# Altium integrated library Altium_WE-MCI (rev20a).IntLib: 48 symbols
Pins are listed as number, name and electrical type; pins without a type are passive.

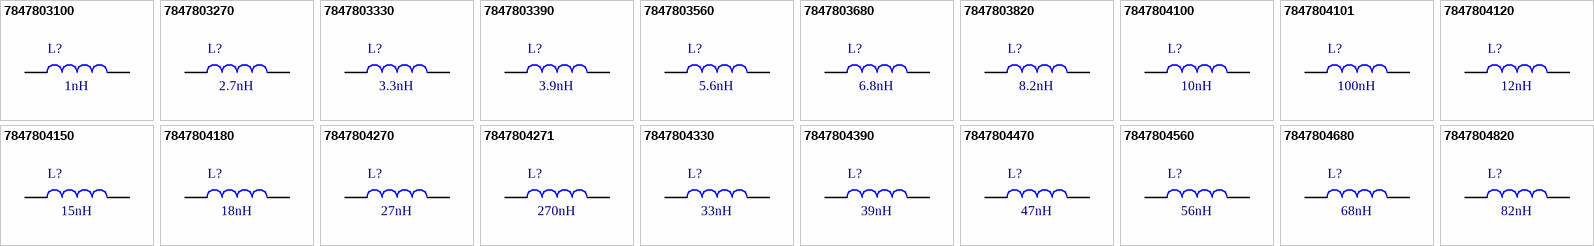
[diagram p0: symbols 7847803100 to 7847804820]

## 7847803100
designator L?, comment 1nH
WE-MCI Multilayer Ceramic SMT Inductor, size 0402, 1nH, 300mA, 0.1Ohm; Manufacturer Part Number: 7847803100; Manufacturer: Wurth Elektronik; Inductance Tolerance: +/-0.3nH; Self Resonant Frequency min.: 8000MHz; Q-Factor min.: 8; ComponentLink1Description: Manufacturer; Operating Temperature: -55 to +125degC; Size: 0402; ComponentLink2URL: https://www.we-online.com/catalog/datasheet/7847803100.pdf; ComponentLink2Description: Datasheet; Rated Current: 300mA; ComponentLink1URL: http://www.we-online.de; Packaging: Tape and Reel; Inductance: 1nH; DC Resistance max.: 0.1Ohm; Mounting Technology: SMT; Published Date: December 2020
footprint WE-MCI_0402
pins: 1, 2

## 7847803270
designator L?, comment 2.7nH
WE-MCI Multilayer Ceramic SMT Inductor, size 0402, 2.7nH, 300mA, 0.17Ohm; Manufacturer Part Number: 7847803270; Manufacturer: Wurth Elektronik; Inductance Tolerance: +/-0.3nH; Self Resonant Frequency min.: 6000MHz; Q-Factor min.: 8; ComponentLink1Description: Manufacturer; Operating Temperature: -55 to +125degC; Size: 0402; ComponentLink2URL: https://www.we-online.com/catalog/datasheet/7847803270.pdf; ComponentLink2Description: Datasheet; Rated Current: 300mA; ComponentLink1URL: http://www.we-online.de; Packaging: Tape and Reel; Inductance: 2.7nH; DC Resistance max.: 0.17Ohm; Mounting Technology: SMT; Published Date: December 2020
footprint WE-MCI_0402
pins: 1, 2

## 7847803330
designator L?, comment 3.3nH
WE-MCI Multilayer Ceramic SMT Inductor, size 0402, 3.3nH, 300mA, 0.19Ohm; Manufacturer Part Number: 7847803330; Manufacturer: Wurth Elektronik; Inductance Tolerance: +/-0.3nH; Self Resonant Frequency min.: 6000MHz; Q-Factor min.: 8; ComponentLink1Description: Manufacturer; Operating Temperature: -55 to +125degC; Size: 0402; ComponentLink2URL: https://www.we-online.com/catalog/datasheet/7847803330.pdf; ComponentLink2Description: Datasheet; Rated Current: 300mA; ComponentLink1URL: http://www.we-online.de; Packaging: Tape and Reel; Inductance: 3.3nH; DC Resistance max.: 0.19Ohm; Mounting Technology: SMT; Published Date: December 2020
footprint WE-MCI_0402
pins: 1, 2

## 7847803390
designator L?, comment 3.9nH
WE-MCI Multilayer Ceramic SMT Inductor, size 0402, 3.9nH, 300mA, 0.19Ohm; Manufacturer Part Number: 7847803390; Manufacturer: Wurth Elektronik; Inductance Tolerance: +/-0.3nH; Self Resonant Frequency min.: 6000MHz; Q-Factor min.: 8; ComponentLink1Description: Manufacturer; Operating Temperature: -55 to +125degC; Size: 0402; ComponentLink2URL: https://www.we-online.com/catalog/datasheet/7847803390.pdf; ComponentLink2Description: Datasheet; Rated Current: 300mA; ComponentLink1URL: http://www.we-online.de; Packaging: Tape and Reel; Inductance: 3.9nH; DC Resistance max.: 0.19Ohm; Mounting Technology: SMT; Published Date: December 2020
footprint WE-MCI_0402
pins: 1, 2

## 7847803560
designator L?, comment 5.6nH
WE-MCI Multilayer Ceramic SMT Inductor, size 0402, 5.6nH, 300mA, 0.26Ohm; Manufacturer Part Number: 7847803560; Manufacturer: Wurth Elektronik; Inductance Tolerance: +/-0.3nH; Self Resonant Frequency min.: 5300MHz; Q-Factor min.: 8; ComponentLink1Description: Manufacturer; Operating Temperature: -55 to +125degC; Size: 0402; ComponentLink2URL: https://www.we-online.com/catalog/datasheet/7847803560.pdf; ComponentLink2Description: Datasheet; Rated Current: 300mA; ComponentLink1URL: http://www.we-online.de; Packaging: Tape and Reel; Inductance: 5.6nH; DC Resistance max.: 0.26Ohm; Mounting Technology: SMT; Published Date: December 2020
footprint WE-MCI_0402
pins: 1, 2

## 7847803680
designator L?, comment 6.8nH
WE-MCI Multilayer Ceramic SMT Inductor, size 0402, 6.8nH, 300mA, 0.29Ohm; Manufacturer Part Number: 7847803680; Manufacturer: Wurth Elektronik; Inductance Tolerance: +/-5%; Self Resonant Frequency min.: 4200MHz; Q-Factor min.: 8; ComponentLink1Description: Manufacturer; Operating Temperature: -55 to +125degC; Size: 0402; ComponentLink2URL: https://www.we-online.com/catalog/datasheet/7847803680.pdf; ComponentLink2Description: Datasheet; Rated Current: 300mA; ComponentLink1URL: http://www.we-online.de; Packaging: Tape and Reel; Inductance: 6.8nH; DC Resistance max.: 0.29Ohm; Mounting Technology: SMT; Published Date: December 2020
footprint WE-MCI_0402
pins: 1, 2

## 7847803820
designator L?, comment 8.2nH
WE-MCI Multilayer Ceramic SMT Inductor, size 0402, 8.2nH, 300mA, 0.33Ohm; Manufacturer Part Number: 7847803820; Manufacturer: Wurth Elektronik; Inductance Tolerance: +/-5%; Self Resonant Frequency min.: 3600MHz; Q-Factor min.: 8; ComponentLink1Description: Manufacturer; Operating Temperature: -55 to +125degC; Size: 0402; ComponentLink2URL: https://www.we-online.com/catalog/datasheet/7847803820.pdf; ComponentLink2Description: Datasheet; Rated Current: 300mA; ComponentLink1URL: http://www.we-online.de; Packaging: Tape and Reel; Inductance: 8.2nH; DC Resistance max.: 0.33Ohm; Mounting Technology: SMT; Published Date: December 2020
footprint WE-MCI_0402
pins: 1, 2

## 7847804100
designator L?, comment 10nH
WE-MCI Multilayer Ceramic SMT Inductor, size 0402, 10nH, 300mA, 0.35Ohm; Manufacturer Part Number: 7847804100; Manufacturer: Wurth Elektronik; Inductance Tolerance: +/-5%; Self Resonant Frequency min.: 3200MHz; Q-Factor min.: 8; ComponentLink1Description: Manufacturer; Operating Temperature: -55 to +125degC; Size: 0402; ComponentLink2URL: https://www.we-online.com/catalog/datasheet/7847804100.pdf; ComponentLink2Description: Datasheet; Rated Current: 300mA; ComponentLink1URL: http://www.we-online.de; Packaging: Tape and Reel; Inductance: 10nH; DC Resistance max.: 0.35Ohm; Mounting Technology: SMT; Published Date: December 2020
footprint WE-MCI_0402
pins: 1, 2

## 7847804101
designator L?, comment 100nH
WE-MCI Multilayer Ceramic SMT Inductor, size 0402, 100nH, 150mA, 1.6Ohm; Manufacturer Part Number: 7847804101; Manufacturer: Wurth Elektronik; Inductance Tolerance: +/-5%; Self Resonant Frequency min.: 600MHz; Q-Factor min.: 8; ComponentLink1Description: Manufacturer; Operating Temperature: -55 to +125degC; Size: 0402; ComponentLink2URL: https://www.we-online.com/catalog/datasheet/7847804101.pdf; ComponentLink2Description: Datasheet; Rated Current: 150mA; ComponentLink1URL: http://www.we-online.de; Packaging: Tape and Reel; Inductance: 100nH; DC Resistance max.: 1.6Ohm; Mounting Technology: SMT; Published Date: December 2020
footprint WE-MCI_0402
pins: 1, 2

## 7847804120
designator L?, comment 12nH
WE-MCI Multilayer Ceramic SMT Inductor, size 0402, 12nH, 300mA, 0.41Ohm; Manufacturer Part Number: 7847804120; Manufacturer: Wurth Elektronik; Inductance Tolerance: +/-5%; Self Resonant Frequency min.: 2800MHz; Q-Factor min.: 8; ComponentLink1Description: Manufacturer; Operating Temperature: -55 to +125degC; Size: 0402; ComponentLink2URL: https://www.we-online.com/catalog/datasheet/7847804120.pdf; ComponentLink2Description: Datasheet; Rated Current: 300mA; ComponentLink1URL: http://www.we-online.de; Packaging: Tape and Reel; Inductance: 12nH; DC Resistance max.: 0.41Ohm; Mounting Technology: SMT; Published Date: December 2020
footprint WE-MCI_0402
pins: 1, 2

## 7847804150
designator L?, comment 15nH
WE-MCI Multilayer Ceramic SMT Inductor, size 0402, 15nH, 300mA, 0.46Ohm; Manufacturer Part Number: 7847804150; Manufacturer: Wurth Elektronik; Inductance Tolerance: +/-5%; Self Resonant Frequency min.: 2300MHz; Q-Factor min.: 8; ComponentLink1Description: Manufacturer; Operating Temperature: -55 to +125degC; Size: 0402; ComponentLink2URL: https://www.we-online.com/catalog/datasheet/7847804150.pdf; ComponentLink2Description: Datasheet; Rated Current: 300mA; ComponentLink1URL: http://www.we-online.de; Packaging: Tape and Reel; Inductance: 15nH; DC Resistance max.: 0.46Ohm; Mounting Technology: SMT; Published Date: December 2020
footprint WE-MCI_0402
pins: 1, 2

## 7847804180
designator L?, comment 18nH
WE-MCI Multilayer Ceramic SMT Inductor, size 0402, 18nH, 300mA, 0.51Ohm; Manufacturer Part Number: 7847804180; Manufacturer: Wurth Elektronik; Inductance Tolerance: +/-5%; Self Resonant Frequency min.: 2100MHz; Q-Factor min.: 8; ComponentLink1Description: Manufacturer; Operating Temperature: -55 to +125degC; Size: 0402; ComponentLink2URL: https://www.we-online.com/catalog/datasheet/7847804180.pdf; ComponentLink2Description: Datasheet; Rated Current: 300mA; ComponentLink1URL: http://www.we-online.de; Packaging: Tape and Reel; Inductance: 18nH; DC Resistance max.: 0.51Ohm; Mounting Technology: SMT; Published Date: December 2020
footprint WE-MCI_0402
pins: 1, 2

## 7847804270
designator L?, comment 27nH
WE-MCI Multilayer Ceramic SMT Inductor, size 0402, 27nH, 300mA, 0.67Ohm; Manufacturer Part Number: 7847804270; Manufacturer: Wurth Elektronik; Inductance Tolerance: +/-5%; Self Resonant Frequency min.: 1600MHz; Q-Factor min.: 8; ComponentLink1Description: Manufacturer; Operating Temperature: -55 to +125degC; Size: 0402; ComponentLink2URL: https://www.we-online.com/catalog/datasheet/7847804270.pdf; ComponentLink2Description: Datasheet; Rated Current: 300mA; ComponentLink1URL: http://www.we-online.de; Packaging: Tape and Reel; Inductance: 27nH; DC Resistance max.: 0.67Ohm; Mounting Technology: SMT; Published Date: December 2020
footprint WE-MCI_0402
pins: 1, 2

## 7847804271
designator L?, comment 270nH
WE-MCI Multilayer Ceramic SMT Inductor, size 0402, 270nH, 110mA, 4.9Ohm; Manufacturer Part Number: 7847804271; Manufacturer: Wurth Elektronik; Inductance Tolerance: +/-5%; Self Resonant Frequency min.: 500MHz; Q-Factor min.: 8; ComponentLink1Description: Manufacturer; Operating Temperature: -55 to +125degC; Size: 0402; ComponentLink2URL: https://www.we-online.com/catalog/datasheet/7847804271.pdf; ComponentLink2Description: Datasheet; Rated Current: 110mA; ComponentLink1URL: http://www.we-online.de; Packaging: Tape and Reel; Inductance: 270nH; DC Resistance max.: 4.9Ohm; Mounting Technology: SMT; Published Date: December 2020
footprint WE-MCI_0402
pins: 1, 2

## 7847804330
designator L?, comment 33nH
WE-MCI Multilayer Ceramic SMT Inductor, size 0402, 33nH, 200mA, 0.67Ohm; Manufacturer Part Number: 7847804330; Manufacturer: Wurth Elektronik; Inductance Tolerance: +/-5%; Self Resonant Frequency min.: 1500MHz; Q-Factor min.: 8; ComponentLink1Description: Manufacturer; Operating Temperature: -55 to +125degC; Size: 0402; ComponentLink2URL: https://www.we-online.com/catalog/datasheet/7847804330.pdf; ComponentLink2Description: Datasheet; Rated Current: 200mA; ComponentLink1URL: http://www.we-online.de; Packaging: Tape and Reel; Inductance: 33nH; DC Resistance max.: 0.67Ohm; Mounting Technology: SMT; Published Date: December 2020
footprint WE-MCI_0402
pins: 1, 2

## 7847804390
designator L?, comment 39nH
WE-MCI Multilayer Ceramic SMT Inductor, size 0402, 39nH, 200mA, 1.06Ohm; Manufacturer Part Number: 7847804390; Manufacturer: Wurth Elektronik; Inductance Tolerance: +/-5%; Self Resonant Frequency min.: 1200MHz; Q-Factor min.: 8; ComponentLink1Description: Manufacturer; Operating Temperature: -55 to +125degC; Size: 0402; ComponentLink2URL: https://www.we-online.com/catalog/datasheet/7847804390.pdf; ComponentLink2Description: Datasheet; Rated Current: 200mA; ComponentLink1URL: http://www.we-online.de; Packaging: Tape and Reel; Inductance: 39nH; DC Resistance max.: 1.06Ohm; Mounting Technology: SMT; Published Date: December 2020
footprint WE-MCI_0402
pins: 1, 2

## 7847804470
designator L?, comment 47nH
WE-MCI Multilayer Ceramic SMT Inductor, size 0402, 47nH, 200mA, 1.15Ohm; Manufacturer Part Number: 7847804470; Manufacturer: Wurth Elektronik; Inductance Tolerance: +/-5%; Self Resonant Frequency min.: 1000MHz; Q-Factor min.: 8; ComponentLink1Description: Manufacturer; Operating Temperature: -55 to +125degC; Size: 0402; ComponentLink2URL: https://www.we-online.com/catalog/datasheet/7847804470.pdf; ComponentLink2Description: Datasheet; Rated Current: 200mA; ComponentLink1URL: http://www.we-online.de; Packaging: Tape and Reel; Inductance: 47nH; DC Resistance max.: 1.15Ohm; Mounting Technology: SMT; Published Date: December 2020
footprint WE-MCI_0402
pins: 1, 2

## 7847804560
designator L?, comment 56nH
WE-MCI Multilayer Ceramic SMT Inductor, size 0402, 56nH, 200mA, 1.2Ohm; Manufacturer Part Number: 7847804560; Manufacturer: Wurth Elektronik; Inductance Tolerance: +/-5%; Self Resonant Frequency min.: 800MHz; Q-Factor min.: 8; ComponentLink1Description: Manufacturer; Operating Temperature: -55 to +125degC; Size: 0402; ComponentLink2URL: https://www.we-online.com/catalog/datasheet/7847804560.pdf; ComponentLink2Description: Datasheet; Rated Current: 200mA; ComponentLink1URL: http://www.we-online.de; Packaging: Tape and Reel; Inductance: 56nH; DC Resistance max.: 1.2Ohm; Mounting Technology: SMT; Published Date: December 2020
footprint WE-MCI_0402
pins: 1, 2

## 7847804680
designator L?, comment 68nH
WE-MCI Multilayer Ceramic SMT Inductor, size 0402, 68nH, 180mA, 1.25Ohm; Manufacturer Part Number: 7847804680; Manufacturer: Wurth Elektronik; Inductance Tolerance: +/-5%; Self Resonant Frequency min.: 800MHz; Q-Factor min.: 8; ComponentLink1Description: Manufacturer; Operating Temperature: -55 to +125degC; Size: 0402; ComponentLink2URL: https://www.we-online.com/catalog/datasheet/7847804680.pdf; ComponentLink2Description: Datasheet; Rated Current: 180mA; ComponentLink1URL: http://www.we-online.de; Packaging: Tape and Reel; Inductance: 68nH; DC Resistance max.: 1.25Ohm; Mounting Technology: SMT; Published Date: December 2020
footprint WE-MCI_0402
pins: 1, 2

## 7847804820
designator L?, comment 82nH
WE-MCI Multilayer Ceramic SMT Inductor, size 0402, 82nH, 150mA, 1.6Ohm; Manufacturer Part Number: 7847804820; Manufacturer: Wurth Elektronik; Inductance Tolerance: +/-5%; Self Resonant Frequency min.: 600MHz; Q-Factor min.: 8; ComponentLink1Description: Manufacturer; Operating Temperature: -55 to +125degC; Size: 0402; ComponentLink2URL: https://www.we-online.com/catalog/datasheet/7847804820.pdf; ComponentLink2Description: Datasheet; Rated Current: 150mA; ComponentLink1URL: http://www.we-online.de; Packaging: Tape and Reel; Inductance: 82nH; DC Resistance max.: 1.6Ohm; Mounting Technology: SMT; Published Date: December 2020
footprint WE-MCI_0402
pins: 1, 2


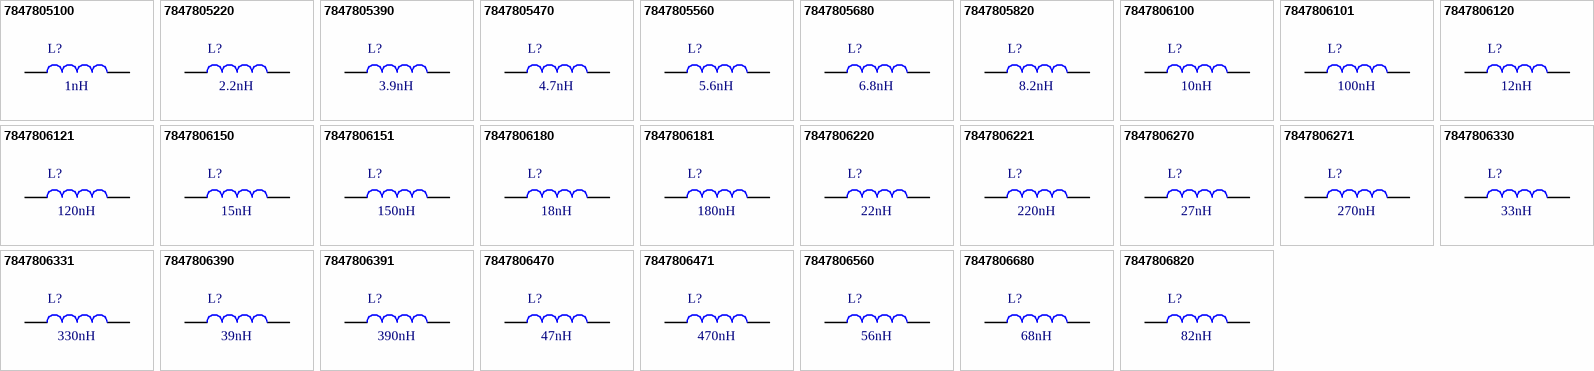
[diagram p1: symbols 7847805100 to 7847806820]

## 7847805100
designator L?, comment 1nH
WE-MCI Multilayer Ceramic SMT Inductor, size 0603, 1nH, 300mA, 0.05Ohm; Manufacturer Part Number: 7847805100; Manufacturer: Wurth Elektronik; Inductance Tolerance: +/-0.3nH; Self Resonant Frequency min.: 10000MHz; Q-Factor min.: 8; ComponentLink1Description: Manufacturer; Operating Temperature: -55 to +125degC; Size: 0603; ComponentLink2URL: https://www.we-online.com/catalog/datasheet/7847805100.pdf; ComponentLink2Description: Datasheet; Rated Current: 300mA; ComponentLink1URL: http://www.we-online.de; Packaging: Tape and Reel; Inductance: 1nH; DC Resistance max.: 0.05Ohm; Mounting Technology: SMT; Published Date: December 2020
footprint WE-MCI_0603
pins: 1, 2

## 7847805220
designator L?, comment 2.2nH
WE-MCI Multilayer Ceramic SMT Inductor, size 0603, 2.2nH, 300mA, 0.1Ohm; Manufacturer Part Number: 7847805220; Manufacturer: Wurth Elektronik; Inductance Tolerance: +/-0.3nH; Self Resonant Frequency min.: 6000MHz; Q-Factor min.: 8; ComponentLink1Description: Manufacturer; Operating Temperature: -55 to +125degC; Size: 0603; ComponentLink2URL: https://www.we-online.com/catalog/datasheet/7847805220.pdf; ComponentLink2Description: Datasheet; Rated Current: 300mA; ComponentLink1URL: http://www.we-online.de; Packaging: Tape and Reel; Inductance: 2.2nH; DC Resistance max.: 0.1Ohm; Mounting Technology: SMT; Published Date: December 2020
footprint WE-MCI_0603
pins: 1, 2

## 7847805390
designator L?, comment 3.9nH
WE-MCI Multilayer Ceramic SMT Inductor, size 0603, 3.9nH, 300mA, 0.14Ohm; Manufacturer Part Number: 7847805390; Manufacturer: Wurth Elektronik; Inductance Tolerance: +/-0.3nH; Self Resonant Frequency min.: 6000MHz; Q-Factor min.: 10; ComponentLink1Description: Manufacturer; Operating Temperature: -55 to +125degC; Size: 0603; ComponentLink2URL: https://www.we-online.com/catalog/datasheet/7847805390.pdf; ComponentLink2Description: Datasheet; Rated Current: 300mA; ComponentLink1URL: http://www.we-online.de; Packaging: Tape and Reel; Inductance: 3.9nH; DC Resistance max.: 0.14Ohm; Mounting Technology: SMT; Published Date: December 2020
footprint WE-MCI_0603
pins: 1, 2

## 7847805470
designator L?, comment 4.7nH
WE-MCI Multilayer Ceramic SMT Inductor, size 0603, 4.7nH, 300mA, 0.16Ohm; Manufacturer Part Number: 7847805470; Manufacturer: Wurth Elektronik; Inductance Tolerance: +/-0.3nH; Self Resonant Frequency min.: 4000MHz; Q-Factor min.: 10; ComponentLink1Description: Manufacturer; Operating Temperature: -55 to +125degC; Size: 0603; ComponentLink2URL: https://www.we-online.com/catalog/datasheet/7847805470.pdf; ComponentLink2Description: Datasheet; Rated Current: 300mA; ComponentLink1URL: http://www.we-online.de; Packaging: Tape and Reel; Inductance: 4.7nH; DC Resistance max.: 0.16Ohm; Mounting Technology: SMT; Published Date: December 2020
footprint WE-MCI_0603
pins: 1, 2

## 7847805560
designator L?, comment 5.6nH
WE-MCI Multilayer Ceramic SMT Inductor, size 0603, 5.6nH, 300mA, 0.18Ohm; Manufacturer Part Number: 7847805560; Manufacturer: Wurth Elektronik; Inductance Tolerance: +/-0.3nH; Self Resonant Frequency min.: 4000MHz; Q-Factor min.: 10; ComponentLink1Description: Manufacturer; Operating Temperature: -55 to +125degC; Size: 0603; ComponentLink2URL: https://www.we-online.com/catalog/datasheet/7847805560.pdf; ComponentLink2Description: Datasheet; Rated Current: 300mA; ComponentLink1URL: http://www.we-online.de; Packaging: Tape and Reel; Inductance: 5.6nH; DC Resistance max.: 0.18Ohm; Mounting Technology: SMT; Published Date: December 2020
footprint WE-MCI_0603
pins: 1, 2

## 7847805680
designator L?, comment 6.8nH
WE-MCI Multilayer Ceramic SMT Inductor, size 0603, 6.8nH, 300mA, 0.22Ohm; Manufacturer Part Number: 7847805680; Manufacturer: Wurth Elektronik; Inductance Tolerance: +/-5%; Self Resonant Frequency min.: 4000MHz; Q-Factor min.: 10; ComponentLink1Description: Manufacturer; Operating Temperature: -55 to +125degC; Size: 0603; ComponentLink2URL: https://www.we-online.com/catalog/datasheet/7847805680.pdf; ComponentLink2Description: Datasheet; Rated Current: 300mA; ComponentLink1URL: http://www.we-online.de; Packaging: Tape and Reel; Inductance: 6.8nH; DC Resistance max.: 0.22Ohm; Mounting Technology: SMT; Published Date: December 2020
footprint WE-MCI_0603
pins: 1, 2

## 7847805820
designator L?, comment 8.2nH
WE-MCI Multilayer Ceramic SMT Inductor, size 0603, 8.2nH, 300mA, 0.24Ohm; Manufacturer Part Number: 7847805820; Manufacturer: Wurth Elektronik; Inductance Tolerance: +/-5%; Self Resonant Frequency min.: 3500MHz; Q-Factor min.: 10; ComponentLink1Description: Manufacturer; Operating Temperature: -55 to +125degC; Size: 0603; ComponentLink2URL: https://www.we-online.com/catalog/datasheet/7847805820.pdf; ComponentLink2Description: Datasheet; Rated Current: 300mA; ComponentLink1URL: http://www.we-online.de; Packaging: Tape and Reel; Inductance: 8.2nH; DC Resistance max.: 0.24Ohm; Mounting Technology: SMT; Published Date: December 2020
footprint WE-MCI_0603
pins: 1, 2

## 7847806100
designator L?, comment 10nH
WE-MCI Multilayer Ceramic SMT Inductor, size 0603, 10nH, 300mA, 0.26Ohm; Manufacturer Part Number: 7847806100; Manufacturer: Wurth Elektronik; Inductance Tolerance: +/-5%; Self Resonant Frequency min.: 3400MHz; Q-Factor min.: 12; ComponentLink1Description: Manufacturer; Operating Temperature: -55 to +125degC; Size: 0603; ComponentLink2URL: https://www.we-online.com/catalog/datasheet/7847806100.pdf; ComponentLink2Description: Datasheet; Rated Current: 300mA; ComponentLink1URL: http://www.we-online.de; Packaging: Tape and Reel; Inductance: 10nH; DC Resistance max.: 0.26Ohm; Mounting Technology: SMT; Published Date: December 2020
footprint WE-MCI_0603
pins: 1, 2

## 7847806101
designator L?, comment 100nH
WE-MCI Multilayer Ceramic SMT Inductor, size 0603, 100nH, 300mA, 1Ohm; Manufacturer Part Number: 7847806101; Manufacturer: Wurth Elektronik; Inductance Tolerance: +/-5%; Self Resonant Frequency min.: 600MHz; Q-Factor min.: 12; ComponentLink1Description: Manufacturer; Operating Temperature: -55 to +125degC; Size: 0603; ComponentLink2URL: https://www.we-online.com/catalog/datasheet/7847806101.pdf; ComponentLink2Description: Datasheet; Rated Current: 300mA; ComponentLink1URL: http://www.we-online.de; Packaging: Tape and Reel; Inductance: 100nH; DC Resistance max.: 1Ohm; Mounting Technology: SMT; Published Date: December 2020
footprint WE-MCI_0603
pins: 1, 2

## 7847806120
designator L?, comment 12nH
WE-MCI Multilayer Ceramic SMT Inductor, size 0603, 12nH, 300mA, 0.28Ohm; Manufacturer Part Number: 7847806120; Manufacturer: Wurth Elektronik; Inductance Tolerance: +/-5%; Self Resonant Frequency min.: 2600MHz; Q-Factor min.: 12; ComponentLink1Description: Manufacturer; Operating Temperature: -55 to +125degC; Size: 0603; ComponentLink2URL: https://www.we-online.com/catalog/datasheet/7847806120.pdf; ComponentLink2Description: Datasheet; Rated Current: 300mA; ComponentLink1URL: http://www.we-online.de; Packaging: Tape and Reel; Inductance: 12nH; DC Resistance max.: 0.28Ohm; Mounting Technology: SMT; Published Date: December 2020
footprint WE-MCI_0603
pins: 1, 2

## 7847806121
designator L?, comment 120nH
WE-MCI Multilayer Ceramic SMT Inductor, size 0603, 120nH, 300mA, 1.2Ohm; Manufacturer Part Number: 7847806121; Manufacturer: Wurth Elektronik; Inductance Tolerance: +/-5%; Self Resonant Frequency min.: 500MHz; Q-Factor min.: 8; ComponentLink1Description: Manufacturer; Operating Temperature: -55 to +125degC; Size: 0603; ComponentLink2URL: https://www.we-online.com/catalog/datasheet/7847806121.pdf; ComponentLink2Description: Datasheet; Rated Current: 300mA; ComponentLink1URL: http://www.we-online.de; Packaging: Tape and Reel; Inductance: 120nH; DC Resistance max.: 1.2Ohm; Mounting Technology: SMT; Published Date: December 2020
footprint WE-MCI_0603
pins: 1, 2

## 7847806150
designator L?, comment 15nH
WE-MCI Multilayer Ceramic SMT Inductor, size 0603, 15nH, 300mA, 0.32Ohm; Manufacturer Part Number: 7847806150; Manufacturer: Wurth Elektronik; Inductance Tolerance: +/-5%; Self Resonant Frequency min.: 2300MHz; Q-Factor min.: 12; ComponentLink1Description: Manufacturer; Operating Temperature: -55 to +125degC; Size: 0603; ComponentLink2URL: https://www.we-online.com/catalog/datasheet/7847806150.pdf; ComponentLink2Description: Datasheet; Rated Current: 300mA; ComponentLink1URL: http://www.we-online.de; Packaging: Tape and Reel; Inductance: 15nH; DC Resistance max.: 0.32Ohm; Mounting Technology: SMT; Published Date: December 2020
footprint WE-MCI_0603
pins: 1, 2

## 7847806151
designator L?, comment 150nH
WE-MCI Multilayer Ceramic SMT Inductor, size 0603, 150nH, 300mA, 1.2Ohm; Manufacturer Part Number: 7847806151; Manufacturer: Wurth Elektronik; Inductance Tolerance: +/-5%; Self Resonant Frequency min.: 500MHz; Q-Factor min.: 8; ComponentLink1Description: Manufacturer; Operating Temperature: -55 to +125degC; Size: 0603; ComponentLink2URL: https://www.we-online.com/catalog/datasheet/7847806151.pdf; ComponentLink2Description: Datasheet; Rated Current: 300mA; ComponentLink1URL: http://www.we-online.de; Packaging: Tape and Reel; Inductance: 150nH; DC Resistance max.: 1.2Ohm; Mounting Technology: SMT; Published Date: December 2020
footprint WE-MCI_0603
pins: 1, 2

## 7847806180
designator L?, comment 18nH
WE-MCI Multilayer Ceramic SMT Inductor, size 0603, 18nH, 300mA, 0.35Ohm; Manufacturer Part Number: 7847806180; Manufacturer: Wurth Elektronik; Inductance Tolerance: +/-5%; Self Resonant Frequency min.: 2000MHz; Q-Factor min.: 12; ComponentLink1Description: Manufacturer; Operating Temperature: -55 to +125degC; Size: 0603; ComponentLink2URL: https://www.we-online.com/catalog/datasheet/7847806180.pdf; ComponentLink2Description: Datasheet; Rated Current: 300mA; ComponentLink1URL: http://www.we-online.de; Packaging: Tape and Reel; Inductance: 18nH; DC Resistance max.: 0.35Ohm; Mounting Technology: SMT; Published Date: December 2020
footprint WE-MCI_0603
pins: 1, 2

## 7847806181
designator L?, comment 180nH
WE-MCI Multilayer Ceramic SMT Inductor, size 0603, 180nH, 300mA, 1.3Ohm; Manufacturer Part Number: 7847806181; Manufacturer: Wurth Elektronik; Inductance Tolerance: +/-5%; Self Resonant Frequency min.: 400MHz; Q-Factor min.: 8; ComponentLink1Description: Manufacturer; Operating Temperature: -55 to +125degC; Size: 0603; ComponentLink2URL: https://www.we-online.com/catalog/datasheet/7847806181.pdf; ComponentLink2Description: Datasheet; Rated Current: 300mA; ComponentLink1URL: http://www.we-online.de; Packaging: Tape and Reel; Inductance: 180nH; DC Resistance max.: 1.3Ohm; Mounting Technology: SMT; Published Date: December 2020
footprint WE-MCI_0603
pins: 1, 2

## 7847806220
designator L?, comment 22nH
WE-MCI Multilayer Ceramic SMT Inductor, size 0603, 22nH, 300mA, 0.4Ohm; Manufacturer Part Number: 7847806220; Manufacturer: Wurth Elektronik; Inductance Tolerance: +/-5%; Self Resonant Frequency min.: 1600MHz; Q-Factor min.: 12; ComponentLink1Description: Manufacturer; Operating Temperature: -55 to +125degC; Size: 0603; ComponentLink2URL: https://www.we-online.com/catalog/datasheet/7847806220.pdf; ComponentLink2Description: Datasheet; Rated Current: 300mA; ComponentLink1URL: http://www.we-online.de; Packaging: Tape and Reel; Inductance: 22nH; DC Resistance max.: 0.4Ohm; Mounting Technology: SMT; Published Date: December 2020
footprint WE-MCI_0603
pins: 1, 2

## 7847806221
designator L?, comment 220nH
WE-MCI Multilayer Ceramic SMT Inductor, size 0603, 220nH, 300mA, 1.5Ohm; Manufacturer Part Number: 7847806221; Manufacturer: Wurth Elektronik; Inductance Tolerance: +/-5%; Self Resonant Frequency min.: 400MHz; Q-Factor min.: 8; ComponentLink1Description: Manufacturer; Operating Temperature: -55 to +125degC; Size: 0603; ComponentLink2URL: https://www.we-online.com/catalog/datasheet/7847806221.pdf; ComponentLink2Description: Datasheet; Rated Current: 300mA; ComponentLink1URL: http://www.we-online.de; Packaging: Tape and Reel; Inductance: 220nH; DC Resistance max.: 1.5Ohm; Mounting Technology: SMT; Published Date: December 2020
footprint WE-MCI_0603
pins: 1, 2

## 7847806270
designator L?, comment 27nH
WE-MCI Multilayer Ceramic SMT Inductor, size 0603, 27nH, 300mA, 0.45Ohm; Manufacturer Part Number: 7847806270; Manufacturer: Wurth Elektronik; Inductance Tolerance: +/-5%; Self Resonant Frequency min.: 1400MHz; Q-Factor min.: 12; ComponentLink1Description: Manufacturer; Operating Temperature: -55 to +125degC; Size: 0603; ComponentLink2URL: https://www.we-online.com/catalog/datasheet/7847806270.pdf; ComponentLink2Description: Datasheet; Rated Current: 300mA; ComponentLink1URL: http://www.we-online.de; Packaging: Tape and Reel; Inductance: 27nH; DC Resistance max.: 0.45Ohm; Mounting Technology: SMT; Published Date: December 2020
footprint WE-MCI_0603
pins: 1, 2

## 7847806271
designator L?, comment 270nH
WE-MCI Multilayer Ceramic SMT Inductor, size 0603, 270nH, 300mA, 1.9Ohm; Manufacturer Part Number: 7847806271; Manufacturer: Wurth Elektronik; Inductance Tolerance: +/-5%; Self Resonant Frequency min.: 400MHz; Q-Factor min.: 8; ComponentLink1Description: Manufacturer; Operating Temperature: -55 to +125degC; Size: 0603; ComponentLink2URL: https://www.we-online.com/catalog/datasheet/7847806271.pdf; ComponentLink2Description: Datasheet; Rated Current: 300mA; ComponentLink1URL: http://www.we-online.de; Packaging: Tape and Reel; Inductance: 270nH; DC Resistance max.: 1.9Ohm; Mounting Technology: SMT; Published Date: December 2020
footprint WE-MCI_0603
pins: 1, 2

## 7847806330
designator L?, comment 33nH
WE-MCI Multilayer Ceramic SMT Inductor, size 0603, 33nH, 300mA, 0.55Ohm; Manufacturer Part Number: 7847806330; Manufacturer: Wurth Elektronik; Inductance Tolerance: +/-5%; Self Resonant Frequency min.: 1200MHz; Q-Factor min.: 12; ComponentLink1Description: Manufacturer; Operating Temperature: -55 to +125degC; Size: 0603; ComponentLink2URL: https://www.we-online.com/catalog/datasheet/7847806330.pdf; ComponentLink2Description: Datasheet; Rated Current: 300mA; ComponentLink1URL: http://www.we-online.de; Packaging: Tape and Reel; Inductance: 33nH; DC Resistance max.: 0.55Ohm; Mounting Technology: SMT; Published Date: December 2020
footprint WE-MCI_0603
pins: 1, 2

## 7847806331
designator L?, comment 330nH
WE-MCI Multilayer Ceramic SMT Inductor, size 0603, 330nH, 300mA, 2.1Ohm; Manufacturer Part Number: 7847806331; Manufacturer: Wurth Elektronik; Inductance Tolerance: +/-5%; Self Resonant Frequency min.: 350MHz; Q-Factor min.: 8; ComponentLink1Description: Manufacturer; Operating Temperature: -55 to +125degC; Size: 0603; ComponentLink2URL: https://www.we-online.com/catalog/datasheet/7847806331.pdf; ComponentLink2Description: Datasheet; Rated Current: 300mA; ComponentLink1URL: http://www.we-online.de; Packaging: Tape and Reel; Inductance: 330nH; DC Resistance max.: 2.1Ohm; Mounting Technology: SMT; Published Date: December 2020
footprint WE-MCI_0603
pins: 1, 2

## 7847806390
designator L?, comment 39nH
WE-MCI Multilayer Ceramic SMT Inductor, size 0603, 39nH, 300mA, 0.6Ohm; Manufacturer Part Number: 7847806390; Manufacturer: Wurth Elektronik; Inductance Tolerance: +/-5%; Self Resonant Frequency min.: 1100MHz; Q-Factor min.: 12; ComponentLink1Description: Manufacturer; Operating Temperature: -55 to +125degC; Size: 0603; ComponentLink2URL: https://www.we-online.com/catalog/datasheet/7847806390.pdf; ComponentLink2Description: Datasheet; Rated Current: 300mA; ComponentLink1URL: http://www.we-online.de; Packaging: Tape and Reel; Inductance: 39nH; DC Resistance max.: 0.6Ohm; Mounting Technology: SMT; Published Date: December 2020
footprint WE-MCI_0603
pins: 1, 2

## 7847806391
designator L?, comment 390nH
WE-MCI Multilayer Ceramic SMT Inductor, size 0603, 390nH, 150mA, 2.3Ohm; Manufacturer Part Number: 7847806391; Manufacturer: Wurth Elektronik; Inductance Tolerance: +/-5%; Self Resonant Frequency min.: 350MHz; Q-Factor min.: 8; ComponentLink1Description: Manufacturer; Operating Temperature: -55 to +125degC; Size: 0603; ComponentLink2URL: https://www.we-online.com/catalog/datasheet/7847806391.pdf; ComponentLink2Description: Datasheet; Rated Current: 150mA; ComponentLink1URL: http://www.we-online.de; Packaging: Tape and Reel; Inductance: 390nH; DC Resistance max.: 2.3Ohm; Mounting Technology: SMT; Published Date: December 2020
footprint WE-MCI_0603
pins: 1, 2

## 7847806470
designator L?, comment 47nH
WE-MCI Multilayer Ceramic SMT Inductor, size 0603, 47nH, 300mA, 0.7Ohm; Manufacturer Part Number: 7847806470; Manufacturer: Wurth Elektronik; Inductance Tolerance: +/-5%; Self Resonant Frequency min.: 900MHz; Q-Factor min.: 12; ComponentLink1Description: Manufacturer; Operating Temperature: -55 to +125degC; Size: 0603; ComponentLink2URL: https://www.we-online.com/catalog/datasheet/7847806470.pdf; ComponentLink2Description: Datasheet; Rated Current: 300mA; ComponentLink1URL: http://www.we-online.de; Packaging: Tape and Reel; Inductance: 47nH; DC Resistance max.: 0.7Ohm; Mounting Technology: SMT; Published Date: December 2020
footprint WE-MCI_0603
pins: 1, 2

## 7847806471
designator L?, comment 470nH
WE-MCI Multilayer Ceramic SMT Inductor, size 0603, 470nH, 150mA, 2.6Ohm; Manufacturer Part Number: 7847806471; Manufacturer: Wurth Elektronik; Inductance Tolerance: +/-5%; Self Resonant Frequency min.: 300MHz; Q-Factor min.: 8; ComponentLink1Description: Manufacturer; Operating Temperature: -55 to +125degC; Size: 0603; ComponentLink2URL: https://www.we-online.com/catalog/datasheet/7847806471.pdf; ComponentLink2Description: Datasheet; Rated Current: 150mA; ComponentLink1URL: http://www.we-online.de; Packaging: Tape and Reel; Inductance: 470nH; DC Resistance max.: 2.6Ohm; Mounting Technology: SMT; Published Date: December 2020
footprint WE-MCI_0603
pins: 1, 2

## 7847806560
designator L?, comment 56nH
WE-MCI Multilayer Ceramic SMT Inductor, size 0603, 56nH, 300mA, 0.75Ohm; Manufacturer Part Number: 7847806560; Manufacturer: Wurth Elektronik; Inductance Tolerance: +/-5%; Self Resonant Frequency min.: 900MHz; Q-Factor min.: 12; ComponentLink1Description: Manufacturer; Operating Temperature: -55 to +125degC; Size: 0603; ComponentLink2URL: https://www.we-online.com/catalog/datasheet/7847806560.pdf; ComponentLink2Description: Datasheet; Rated Current: 300mA; ComponentLink1URL: http://www.we-online.de; Packaging: Tape and Reel; Inductance: 56nH; DC Resistance max.: 0.75Ohm; Mounting Technology: SMT; Published Date: December 2020
footprint WE-MCI_0603
pins: 1, 2

## 7847806680
designator L?, comment 68nH
WE-MCI Multilayer Ceramic SMT Inductor, size 0603, 68nH, 300mA, 0.85Ohm; Manufacturer Part Number: 7847806680; Manufacturer: Wurth Elektronik; Inductance Tolerance: +/-5%; Self Resonant Frequency min.: 700MHz; Q-Factor min.: 12; ComponentLink1Description: Manufacturer; Operating Temperature: -55 to +125degC; Size: 0603; ComponentLink2URL: https://www.we-online.com/catalog/datasheet/7847806680.pdf; ComponentLink2Description: Datasheet; Rated Current: 300mA; ComponentLink1URL: http://www.we-online.de; Packaging: Tape and Reel; Inductance: 68nH; DC Resistance max.: 0.85Ohm; Mounting Technology: SMT; Published Date: December 2020
footprint WE-MCI_0603
pins: 1, 2

## 7847806820
designator L?, comment 82nH
WE-MCI Multilayer Ceramic SMT Inductor, size 0603, 82nH, 300mA, 0.95Ohm; Manufacturer Part Number: 7847806820; Manufacturer: Wurth Elektronik; Inductance Tolerance: +/-5%; Self Resonant Frequency min.: 600MHz; Q-Factor min.: 12; ComponentLink1Description: Manufacturer; Operating Temperature: -55 to +125degC; Size: 0603; ComponentLink2URL: https://www.we-online.com/catalog/datasheet/7847806820.pdf; ComponentLink2Description: Datasheet; Rated Current: 300mA; ComponentLink1URL: http://www.we-online.de; Packaging: Tape and Reel; Inductance: 82nH; DC Resistance max.: 0.95Ohm; Mounting Technology: SMT; Published Date: December 2020
footprint WE-MCI_0603
pins: 1, 2